# Altium schematic symbol library 5_Pin_ScrewTerm.SchLib: 1 symbol
Pins are listed as number, name and electrical type; pins without a type are passive.

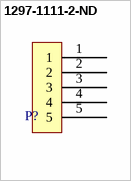
[diagram p0: symbol 1297-1111-2-ND]

## 1297-1111-2-ND
designator P?
5 Screw Term
footprint 5 Pin Screw Terminal
pins: 1, 2, 3, 4, 5